# EAGLE library part OPTEST-DIL14 (library wb-opamps)
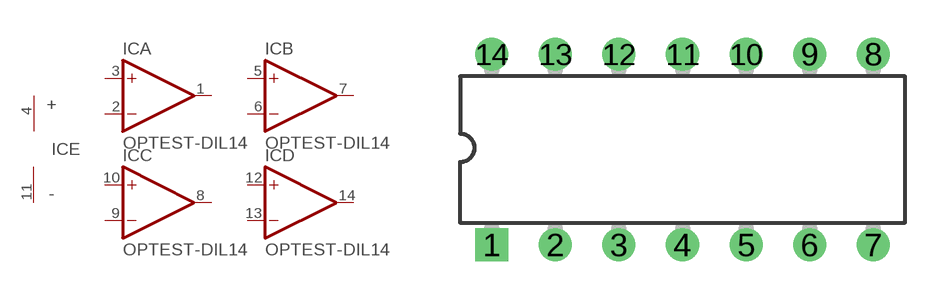
[diagram p13: symbol with the pads of DIL14; footprint DIL14]

Designator prefix IC; gates A=TYP-OP B=TYP-OP C=TYP-OP D=TYP-OP E=TYP-PWR

## OPTEST-DIL14D  [DIL14]
1  A:OUT  out
2  A:INVERTING(-)  in
3  A:NON-INVERTING(+)  in
4  E:V+  pwr
5  B:NON-INVERTING(+)  in
6  B:INVERTING(-)  in
7  B:OUT  out
8  C:OUT  out
9  C:INVERTING(-)  in
10  C:NON-INVERTING(+)  in
11  E:V-  pwr
12  D:NON-INVERTING(+)  in
13  D:INVERTING(-)  in
14  D:OUT  out

## Footprint DIL14 (pad centres in mm)
drill 0.813 square: 1 -7.62,-3.81
drill 0.813: 2 -5.08,-3.81; 3 -2.54,-3.81; 4 0,-3.81; 5 2.54,-3.81; 6 5.08,-3.81; 7 7.62,-3.81; 8 7.62,3.81; 9 5.08,3.81; 10 2.54,3.81; 11 0,3.81; 12 -2.54,3.81; 13 -5.08,3.81; 14 -7.62,3.81